# EAGLE library part ADC122S625-MSOP10 (library Neel)
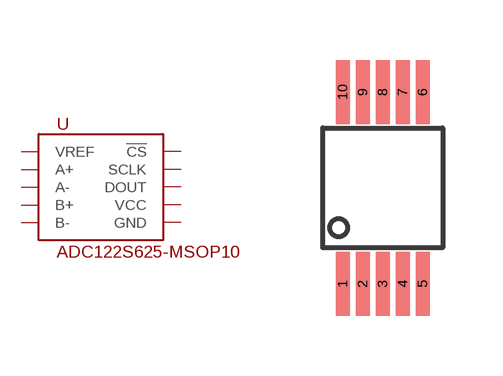
[diagram p51: symbol with the pads of MSOP-10; footprint MSOP-10]

Designator prefix U

## ADC122S625-MSOP10  [MSOP-10]
1  VREF
2  A+
3  A-
4  B+
5  B-
6  GND
7  VCC
8  DOUT
9  SCLK
10  !CS

## Footprint MSOP-10 (pad centres in mm)
smd 0.35 x 1.6: 1 -1,-2.4; 2 -0.5,-2.4; 3 0,-2.4; 4 0.5,-2.4; 5 1,-2.4; 6 1,2.4; 7 0.5,2.4; 8 0,2.4; 9 -0.5,2.4; 10 -1,2.4